# Altium integrated library TI Power Management Battery Management.IntLib: 949 symbols (part 9 of 62)
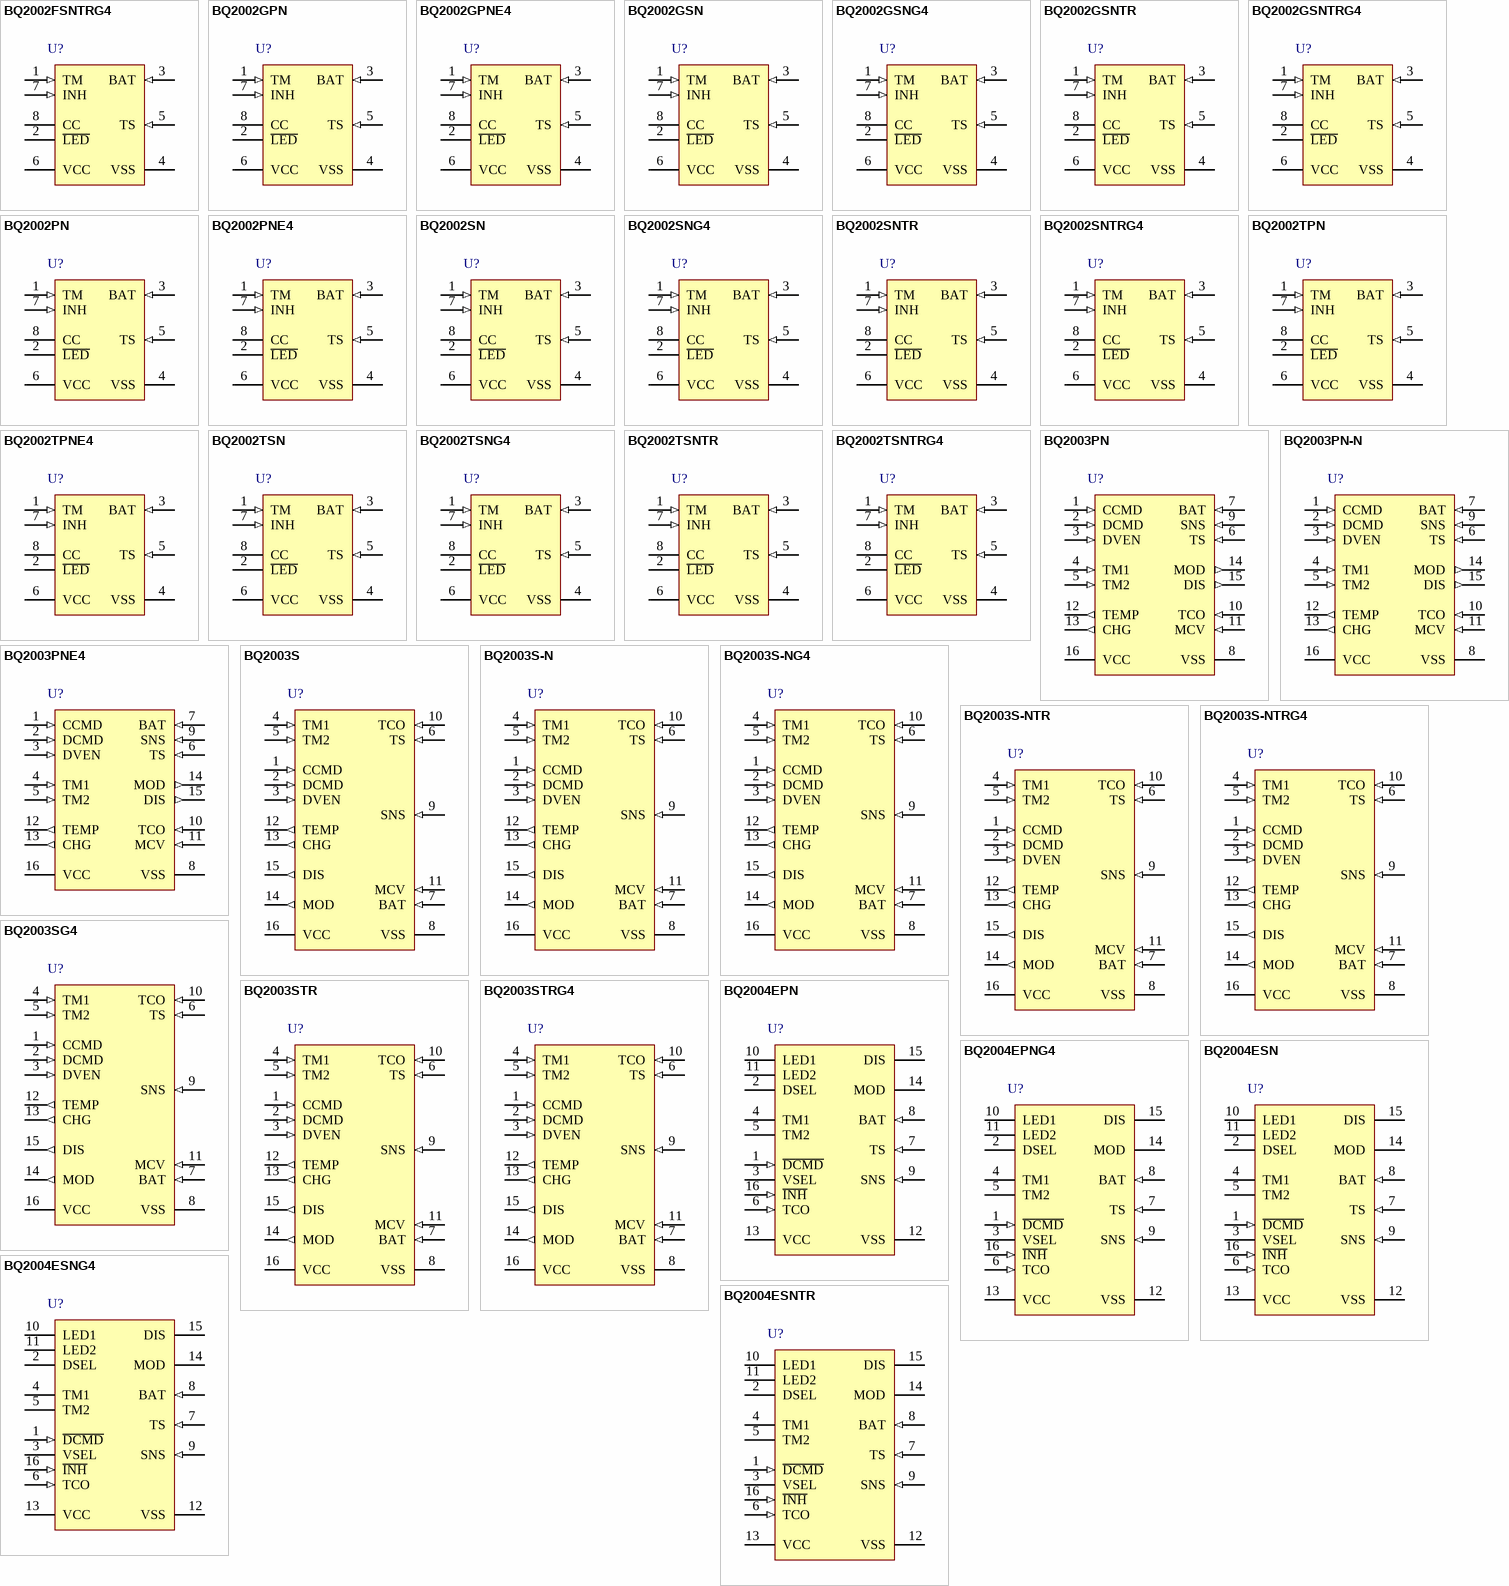
[diagram p42: symbols BQ2002FSNTRG4 to BQ2004ESNTR]

## BQ2003STR
designator U?
Switch-Mode NiCd / NiMH Battery Charger with Negative dV and dT / dt Termination, 4.5 V, 0 to 70 degC, 16-pin SOIC (DW), Green (RoHS & no Sb/Br); PartNumber: BQ2003STR; Manufacturer: Texas Instruments; Lead Acid: N; NiCd: Y; SubFamily: Battery Charge Management; Vin(Min)(V): 4.5; DatasheetVersion: SLUS095A; PackageVersion: revG, Jan-2011; PackageReference: DW16; PackageDescription: 16-Pin Small Outline Integrated Circuit, 10.3 x 7.5 mm, Pitch 1.27 mm Pitch; Supplier 1: Digi-Key; Supplier Part Number 1: BQ2003STR-ND; Supplier 2: Newark; Supplier Part Number 2: 74C7534; Supplier 3: Mouser; Supplier Part Number 3: 595-BQ2003STR; Eco-Plan: Green (RoHS & no Sb/Br); Li-Ion: N; Li-Polymer: N; NiMH: Y; Over Voltage Protection: N; Mounting Technology: Surface Mount; Code_JEDEC: MS-013-AA; ComponentLink1Description: Datasheet; ComponentLink1URL: http://www.ti.com/general/docs/lit/getliterature.tsp?genericPartNumber=BQ2003&fileType=pdf
footprint DW16_N (SOIC, 16-Leads, Body 10.3x7.5mm, Pitch 1.27mm, IPC Medium Density)
footprint DW16_L (SOIC, 16-Leads, Body 10.3x7.5mm, Pitch 1.27mm, IPC High Density)
footprint DW16_M (SOIC, 16-Leads, Body 10.3x7.5mm, Pitch 1.27mm, IPC Low Density)
pins: 1 CCMD (in) "These two inputs control the conditions that begin a new charge cycle and enable discharge-before-charge. See Table 1.", 2 DCMD (in) "These two inputs control the conditions that begin a new charge cycle and enable discharge-before-charge. See Table 1.", 3 DVEN (in) "This input enales/disables -deltaV charge termination.If DVEN is high, the -deltaV test is enabled.If DVEN is low, -deltaV test is disabled. The state of DVEN may be changed at any time.", 4 TM1 (in) "TM1 is three-state input that configure the fast charge safety timer, -deltaV holdoff time, and that enhance/disable top-off.See Table 2.", 5 TM2 (in) "TM2 is three-state input that configure the fast charge safety timer, -deltaV holdoff time, and that enhance/disable top-off.See Table 2.", 6 TS (in) "Input, referenced to SNS, for an external thermistor monitoring battery temperature.", 7 BAT (in) "The battery voltage sense input, referenced to SNS. This is created by a high-impedance resistor divider network connected between the positive and the negative terminals of the battery.", 8 VSS (power) "Ground", 9 SNS (in) "SNS controls the switching of MOD based on the voltage across an external sense resistor in the current path of the battery. SNS is the reference potential for the TS and BAT pins.If SNS is connected to VSS, MOD switches (See Datasheet)", 10 TCO (in) "Input to set maximum allowable battery temperature. If the potential between TS and SNS is less than the voltage at the TCO input, then fast charge or top-off charge is terminated.", 11 MCV (in) "Input to set maximum single-cell equivalent voltage. If the voltage between BAT and SNS is greater than or equal to the voltage at the MCV input, then fast charge or top-off charge is inhibited.", 12 TEMP (out) "Push-pull output indicating temperature status. TEMP is low if the voltage at the TS pis not within the allowed range to start fast charge.", 13 CHG (out) "Push-pull output indicating charging status.See Figure 1.", 14 MOD (out) "MOD is a push/pull output that is used to control the charging current to the battery.MOD switches high to enable charging current flow and low to inhibit charging current flow.", 15 DIS (out) "Push-pull output used to control an external transistor to discharge the battery before charging.", 16 VCC (power) "5.0 V, +/-10% power input."

## BQ2003STRG4
designator U?
Switch-Mode NiCd / NiMH Battery Charger with Negative dV and dT / dt Termination, 4.5 V, 0 to 70 degC, 16-pin SOIC (DW), Green (RoHS & no Sb/Br); PartNumber: BQ2003STRG4; Manufacturer: Texas Instruments; Lead Acid: N; NiCd: Y; SubFamily: Battery Charge Management; Vin(Min)(V): 4.5; DatasheetVersion: SLUS095A; PackageVersion: revG, Jan-2011; PackageReference: DW16; PackageDescription: 16-Pin Small Outline Integrated Circuit, 10.3 x 7.5 mm, Pitch 1.27 mm Pitch; Supplier 1: Digi-Key; Supplier Part Number 1: BQ2003STRG4-ND; Supplier 2: Newark; Supplier Part Number 2: 66K1456; Supplier 3: Mouser; Supplier Part Number 3: 595-BQ2003STRG4; Eco-Plan: Green (RoHS & no Sb/Br); Li-Ion: N; Li-Polymer: N; NiMH: Y; Over Voltage Protection: N; Mounting Technology: Surface Mount; Code_JEDEC: MS-013-AA; ComponentLink1Description: Datasheet; ComponentLink1URL: http://www.ti.com/general/docs/lit/getliterature.tsp?genericPartNumber=BQ2003&fileType=pdf
footprint DW16_N (SOIC, 16-Leads, Body 10.3x7.5mm, Pitch 1.27mm, IPC Medium Density)
footprint DW16_L (SOIC, 16-Leads, Body 10.3x7.5mm, Pitch 1.27mm, IPC High Density)
footprint DW16_M (SOIC, 16-Leads, Body 10.3x7.5mm, Pitch 1.27mm, IPC Low Density)
pins: 1 CCMD (in) "These two inputs control the conditions that begin a new charge cycle and enable discharge-before-charge. See Table 1.", 2 DCMD (in) "These two inputs control the conditions that begin a new charge cycle and enable discharge-before-charge. See Table 1.", 3 DVEN (in) "This input enales/disables -deltaV charge termination.If DVEN is high, the -deltaV test is enabled.If DVEN is low, -deltaV test is disabled. The state of DVEN may be changed at any time.", 4 TM1 (in) "TM1 is three-state input that configure the fast charge safety timer, -deltaV holdoff time, and that enhance/disable top-off.See Table 2.", 5 TM2 (in) "TM2 is three-state input that configure the fast charge safety timer, -deltaV holdoff time, and that enhance/disable top-off.See Table 2.", 6 TS (in) "Input, referenced to SNS, for an external thermistor monitoring battery temperature.", 7 BAT (in) "The battery voltage sense input, referenced to SNS. This is created by a high-impedance resistor divider network connected between the positive and the negative terminals of the battery.", 8 VSS (power) "Ground", 9 SNS (in) "SNS controls the switching of MOD based on the voltage across an external sense resistor in the current path of the battery. SNS is the reference potential for the TS and BAT pins.If SNS is connected to VSS, MOD switches (See Datasheet)", 10 TCO (in) "Input to set maximum allowable battery temperature. If the potential between TS and SNS is less than the voltage at the TCO input, then fast charge or top-off charge is terminated.", 11 MCV (in) "Input to set maximum single-cell equivalent voltage. If the voltage between BAT and SNS is greater than or equal to the voltage at the MCV input, then fast charge or top-off charge is inhibited.", 12 TEMP (out) "Push-pull output indicating temperature status. TEMP is low if the voltage at the TS pis not within the allowed range to start fast charge.", 13 CHG (out) "Push-pull output indicating charging status.See Figure 1.", 14 MOD (out) "MOD is a push/pull output that is used to control the charging current to the battery.MOD switches high to enable charging current flow and low to inhibit charging current flow.", 15 DIS (out) "Push-pull output used to control an external transistor to discharge the battery before charging.", 16 VCC (power) "5.0 V, +/-10% power input."

## BQ2004EPN
designator U?
Switch-Mode NiCd / NiMH Battery Charger with Negative dV, Peak Voltage Detection, dT / dt Termination, 4.5 V, -20 to 70 degC, 16-pin PDIP (N), Green (RoHS & no Sb/Br); PartNumber: BQ2004EPN; Manufacturer: Texas Instruments; NiCd: Y; SubFamily: Battery Charge Management; Vin(Min)(V): 4.5; DatasheetVersion: SLUS081A; PackageVersion: revE, Dec-2002; PackageReference: N16; PackageDescription: 16-Pin Plastic Dual-In-Line Package, Row Spacing 7.62 mm, Pitch 2.54 mm; Supplier 1: Digi-Key; Supplier Part Number 1: 296-9332-5-ND; Supplier 2: Newark; Supplier Part Number 2: 74C7535; Supplier 3: Mouser; Supplier Part Number 3: 595-BQ2004EPN; Eco-Plan: Green (RoHS & no Sb/Br); Lead Acid: N; Li-Ion: N; Li-Polymer: N; NiMH: Y; Over Voltage Protection: N; Mounting Technology: Through Hole; Code_JEDEC: MS-001*; ComponentLink1Description: Datasheet; ComponentLink1URL: http://www.ti.com/general/docs/lit/getliterature.tsp?genericPartNumber=BQ2004E&fileType=pdf
footprint N16 (DIP, 16-Leads, Row Spacing 7.62mm, Pitch 2.54mm, Body 19.3x6.4mm)
pins: 1 ~{DCMD} (in) "The D\C\M\D\ input controls the conditions that enable discharge-before-charge.D\C\M\D\ is pulled up internally. A negative-going pulse on D\C\M\D\ initiates a discharge to endof- discharge voltage (EDV) on the BAT (See Datasheet)", 2 DSEL "This three-state input configures the charge status display mode of the LED1 and LED2 outputs and can be used to disable top-off and pulsed-trickle. See Table 2.", 3 VSEL "This three-state input controls the voltagetermination technique used by the bq2004E/H. When high, PVD is active.When floating, -deltaV is used. When pulled low,both PVD and -deltaV are disabled.", 4 TM1 "TM1 and TM2 are three-state inputs that configure the fast charge safety timer, voltage termination hold-off time, "top-off" and trickle charge control. See Table 1.", 5 TM2 "TM1 and TM2 are three-state inputs that configure the fast charge safety timer, voltage termination hold-off time, "top-off" and trickle charge control. See Table 1.", 6 TCO (in) "Input to set maximum allowable battery temperature. If the potential between TS and SNS is less than the voltage at the TCO input, then fast charge or top-off charge is terminated.", 7 TS (in) "Input, referenced to SNS, for an external thermister monitoring battery temperature.", 8 BAT (in) "BAT is the battery voltage sense input, referenced to SNS. This is created by a highimpedance resistor-divider network connected between the positive and the negative terminals of the battery.", 9 SNS (in) "SNS controls the switching of MOD based on an external sense resistor in the current path of the battery. SNS is the reference potential for both the TS and BAT pins. If SNS is connected to VSS, then MOD switches high at the (See Datasheet)", 10 LED1 (hiz) "Push-pull outputs indicating charging status. See Table 2.", 11 LED2 (hiz) "Push-pull outputs indicating charging status. See Table 2.", 12 VSS (power) "Ground", 13 VCC (power) "5.0V, +/-10% power input.", 14 MOD (hiz) "MOD is a push-pull output that is used to control the charging current to the battery.MOD switches high to enable charging current to flow and low to inhibit charging current flow.", 15 DIS (hiz) "Push-pull output used to control an external transistor to discharge the battery before charging.", 16 ~{INH} (in) "When low, the bq2004E/H suspends all charge actions, drives all outputs to high impedance,and assumes a low-power operational state. When transitioning from low to high, a new charge cycle is started."

## BQ2004EPNG4
designator U?
Switch-Mode NiCd / NiMH Battery Charger with Negative dV, Peak Voltage Detection, dT / dt Termination, 4.5 V, -20 to 70 degC, 16-pin PDIP (N), Green (RoHS & no Sb/Br); PartNumber: BQ2004EPNG4; Manufacturer: Texas Instruments; NiCd: Y; SubFamily: Battery Charge Management; Vin(Min)(V): 4.5; DatasheetVersion: SLUS081A; PackageVersion: revE, Dec-2002; PackageReference: N16; PackageDescription: 16-Pin Plastic Dual-In-Line Package, Row Spacing 7.62 mm, Pitch 2.54 mm; Supplier 1: Digi-Key; Supplier Part Number 1: BQ2004EPNG4-ND; Supplier 2: Newark; Supplier Part Number 2: 28K2817; Supplier 3: Mouser; Supplier Part Number 3: 595-BQ2004EPNG4; Eco-Plan: Green (RoHS & no Sb/Br); Lead Acid: N; Li-Ion: N; Li-Polymer: N; NiMH: Y; Over Voltage Protection: N; Mounting Technology: Through Hole; Code_JEDEC: MS-001*; ComponentLink1Description: Datasheet; ComponentLink1URL: http://www.ti.com/general/docs/lit/getliterature.tsp?genericPartNumber=BQ2004E&fileType=pdf
footprint N16 (DIP, 16-Leads, Row Spacing 7.62mm, Pitch 2.54mm, Body 19.3x6.4mm)
pins: 1 ~{DCMD} (in) "The D\C\M\D\ input controls the conditions that enable discharge-before-charge.D\C\M\D\ is pulled up internally. A negative-going pulse on D\C\M\D\ initiates a discharge to endof- discharge voltage (EDV) on the BAT (See Datasheet)", 2 DSEL "This three-state input configures the charge status display mode of the LED1 and LED2 outputs and can be used to disable top-off and pulsed-trickle. See Table 2.", 3 VSEL "This three-state input controls the voltagetermination technique used by the bq2004E/H. When high, PVD is active.When floating, -deltaV is used. When pulled low,both PVD and -deltaV are disabled.", 4 TM1 "TM1 and TM2 are three-state inputs that configure the fast charge safety timer, voltage termination hold-off time, "top-off" and trickle charge control. See Table 1.", 5 TM2 "TM1 and TM2 are three-state inputs that configure the fast charge safety timer, voltage termination hold-off time, "top-off" and trickle charge control. See Table 1.", 6 TCO (in) "Input to set maximum allowable battery temperature. If the potential between TS and SNS is less than the voltage at the TCO input, then fast charge or top-off charge is terminated.", 7 TS (in) "Input, referenced to SNS, for an external thermister monitoring battery temperature.", 8 BAT (in) "BAT is the battery voltage sense input, referenced to SNS. This is created by a highimpedance resistor-divider network connected between the positive and the negative terminals of the battery.", 9 SNS (in) "SNS controls the switching of MOD based on an external sense resistor in the current path of the battery. SNS is the reference potential for both the TS and BAT pins. If SNS is connected to VSS, then MOD switches high at the (See Datasheet)", 10 LED1 (hiz) "Push-pull outputs indicating charging status. See Table 2.", 11 LED2 (hiz) "Push-pull outputs indicating charging status. See Table 2.", 12 VSS (power) "Ground", 13 VCC (power) "5.0V, +/-10% power input.", 14 MOD (hiz) "MOD is a push-pull output that is used to control the charging current to the battery.MOD switches high to enable charging current to flow and low to inhibit charging current flow.", 15 DIS (hiz) "Push-pull output used to control an external transistor to discharge the battery before charging.", 16 ~{INH} (in) "When low, the bq2004E/H suspends all charge actions, drives all outputs to high impedance,and assumes a low-power operational state. When transitioning from low to high, a new charge cycle is started."

## BQ2004ESN
designator U?
Switch-Mode NiCd / NiMH Battery Charger with Negative dV, Peak Voltage Detection, dT / dt Termination, 4.5 V, -20 to 70 degC, 16-pin SOIC (D), Green (RoHS & no Sb/Br); PartNumber: BQ2004ESN; Manufacturer: Texas Instruments; Lead Acid: N; NiCd: Y; SubFamily: Battery Charge Management; Vin(Min)(V): 4.5; DatasheetVersion: SLUS081A; PackageVersion: revM, Jun-2011; PackageReference: D16; PackageDescription: 16-Pin Plastic Small Outline Integrated Circuit, 9.9 x 3.9 mm, Pitch 1.27 mm Pitch; Supplier 1: Digi-Key; Supplier Part Number 1: 296-9333-5-ND; Supplier 2: Newark; Supplier Part Number 2: 74C7536; Supplier 3: Mouser; Supplier Part Number 3: 595-BQ2004ESN; Eco-Plan: Green (RoHS & no Sb/Br); Li-Ion: N; Li-Polymer: N; NiMH: Y; Over Voltage Protection: N; Mounting Technology: Surface Mount; Code_JEDEC: MS-012AC; ComponentLink1Description: Datasheet; ComponentLink1URL: http://www.ti.com/general/docs/lit/getliterature.tsp?genericPartNumber=BQ2004E&fileType=pdf
footprint D16_N (SOIC, 16-Leads, Body 9.9x3.9mm, Pitch 1.27mm, IPC Medium Density)
footprint D16_L (SOIC, 16-Leads, Body 9.9x3.9mm, Pitch 1.27mm, IPC High Density)
footprint D16_M (SOIC, 16-Leads, Body 9.9x3.9mm, Pitch 1.27mm, IPC Low Density)
pins: 1 ~{DCMD} (in) "The D\C\M\D\ input controls the conditions that enable discharge-before-charge.D\C\M\D\ is pulled up internally. A negative-going pulse on D\C\M\D\ initiates a discharge to endof- discharge voltage (EDV) on the BAT (See Datasheet)", 2 DSEL "This three-state input configures the charge status display mode of the LED1 and LED2 outputs and can be used to disable top-off and pulsed-trickle. See Table 2.", 3 VSEL "This three-state input controls the voltagetermination technique used by the bq2004. When high, PVD is active.When floating, -deltaV is used. When pulled low,both PVD and -deltaV are disabled.", 4 TM1 "TM1 is three-state input that configure the fast charge safety timer, voltage termination hold-off time, "top-off",and trickle charge control. See Table 1.", 5 TM2 "TM2 is three-state input that configure the fast charge safety timer, voltage termination hold-off time, "top-off",and trickle charge control. See Table 1.", 6 TCO (in) "Input to set maximum allowable battery temperature. If the potential between TS and SNS is less than the voltage at the TCO input, then fast charge or top-off charge is terminated.", 7 TS (in) "Input, referenced to SNS, for an external thermister monitoring battery temperature.", 8 BAT (in) "BAT is the battery voltage sense input, referenced to SNS. This is created by a highimpedance resistor-divider network connected between the positive and the negative terminals of the battery.", 9 SNS (in) "SNS controls the switching of MOD based on an external sense resistor in the current path of the battery. SNS is the reference potential for both the TS and BAT pins. If SNS is connected to VSS, then MOD switches high at the (See Datasheet)", 10 LED1 (hiz) "Push-pull outputs indicating charging status. See Table 2.", 11 LED2 (hiz) "Push-pull outputs indicating charging status. See Table 2.", 12 VSS (power) "Ground", 13 VCC (power) "5.0V, +/-10% power input.", 14 MOD (hiz) "MOD is a push-pull output that is used to control the charging current to the battery.MOD switches high to enable charging current to flow and low to inhibit charging current flow.", 15 DIS (hiz) "Push-pull output used to control an external transistor to discharge the battery before charging.", 16 ~{INH} (in) "When low, the bq2004 suspends all charge actions, drives all outputs to high impedance,and assumes a low-power operational state. When transitioning from low to high, a new charge cycle is started."

## BQ2004ESNG4
designator U?
Switch-Mode NiCd / NiMH Battery Charger with Negative dV, Peak Voltage Detection, dT / dt Termination, 4.5 V, -20 to 70 degC, 16-pin SOIC (D), Green (RoHS & no Sb/Br); PartNumber: BQ2004ESNG4; Manufacturer: Texas Instruments; Lead Acid: N; NiCd: Y; SubFamily: Battery Charge Management; Vin(Min)(V): 4.5; DatasheetVersion: SLUS081A; PackageVersion: revM, Jun-2011; PackageReference: D16; PackageDescription: 16-Pin Plastic Small Outline Integrated Circuit, 9.9 x 3.9 mm, Pitch 1.27 mm Pitch; Supplier 1: Digi-Key; Supplier Part Number 1: BQ2004ESNG4-ND; Supplier 2: Farnell; Supplier Part Number 2: 1206881; Supplier 3: Newark; Supplier Part Number 3: 96K7076; Supplier 4: Newark; Supplier Part Number 4: 80K1219; Supplier 5: Mouser; Supplier Part Number 5: 595-BQ2004ESNG4; Eco-Plan: Green (RoHS & no Sb/Br); Li-Ion: N; Li-Polymer: N; NiMH: Y; Over Voltage Protection: N; Mounting Technology: Surface Mount; Code_JEDEC: MS-012AC; ComponentLink1Description: Datasheet; ComponentLink1URL: http://www.ti.com/general/docs/lit/getliterature.tsp?genericPartNumber=BQ2004E&fileType=pdf
footprint D16_N (SOIC, 16-Leads, Body 9.9x3.9mm, Pitch 1.27mm, IPC Medium Density)
footprint D16_L (SOIC, 16-Leads, Body 9.9x3.9mm, Pitch 1.27mm, IPC High Density)
footprint D16_M (SOIC, 16-Leads, Body 9.9x3.9mm, Pitch 1.27mm, IPC Low Density)
pins: 1 ~{DCMD} (in) "The D\C\M\D\ input controls the conditions that enable discharge-before-charge.D\C\M\D\ is pulled up internally. A negative-going pulse on D\C\M\D\ initiates a discharge to endof- discharge voltage (EDV) on the BAT (See Datasheet)", 2 DSEL "This three-state input configures the charge status display mode of the LED1 and LED2 outputs and can be used to disable top-off and pulsed-trickle. See Table 2.", 3 VSEL "This three-state input controls the voltagetermination technique used by the bq2004. When high, PVD is active.When floating, -deltaV is used. When pulled low,both PVD and -deltaV are disabled.", 4 TM1 "TM1 is three-state input that configure the fast charge safety timer, voltage termination hold-off time, "top-off",and trickle charge control. See Table 1.", 5 TM2 "TM2 is three-state input that configure the fast charge safety timer, voltage termination hold-off time, "top-off",and trickle charge control. See Table 1.", 6 TCO (in) "Input to set maximum allowable battery temperature. If the potential between TS and SNS is less than the voltage at the TCO input, then fast charge or top-off charge is terminated.", 7 TS (in) "Input, referenced to SNS, for an external thermister monitoring battery temperature.", 8 BAT (in) "BAT is the battery voltage sense input, referenced to SNS. This is created by a highimpedance resistor-divider network connected between the positive and the negative terminals of the battery.", 9 SNS (in) "SNS controls the switching of MOD based on an external sense resistor in the current path of the battery. SNS is the reference potential for both the TS and BAT pins. If SNS is connected to VSS, then MOD switches high at the (See Datasheet)", 10 LED1 (hiz) "Push-pull outputs indicating charging status. See Table 2.", 11 LED2 (hiz) "Push-pull outputs indicating charging status. See Table 2.", 12 VSS (power) "Ground", 13 VCC (power) "5.0V, +/-10% power input.", 14 MOD (hiz) "MOD is a push-pull output that is used to control the charging current to the battery.MOD switches high to enable charging current to flow and low to inhibit charging current flow.", 15 DIS (hiz) "Push-pull output used to control an external transistor to discharge the battery before charging.", 16 ~{INH} (in) "When low, the bq2004 suspends all charge actions, drives all outputs to high impedance,and assumes a low-power operational state. When transitioning from low to high, a new charge cycle is started."

## BQ2004ESNTR
designator U?
Switch-Mode NiCd / NiMH Battery Charger with Negative dV, Peak Voltage Detection, dT / dt Termination, 4.5 V, -20 to 70 degC, 16-pin SOIC (D), Green (RoHS & no Sb/Br); PartNumber: BQ2004ESNTR; Manufacturer: Texas Instruments; Lead Acid: N; NiCd: Y; SubFamily: Battery Charge Management; Vin(Min)(V): 4.5; DatasheetVersion: SLUS081A; PackageVersion: revM, Jun-2011; PackageReference: D16; PackageDescription: 16-Pin Plastic Small Outline Integrated Circuit, 9.9 x 3.9 mm, Pitch 1.27 mm Pitch; Supplier 1: Digi-Key; Supplier Part Number 1: 296-29407-2-ND; Supplier 2: Digi-Key; Supplier Part Number 2: 296-29407-1-ND; Supplier 3: Digi-Key; Supplier Part Number 3: 296-29407-6-ND; Supplier 4: Newark; Supplier Part Number 4: 74C7537; Supplier 5: Mouser; Supplier Part Number 5: 595-BQ2004ESNTR; Eco-Plan: Green (RoHS & no Sb/Br); Li-Ion: N; Li-Polymer: N; NiMH: Y; Over Voltage Protection: N; Mounting Technology: Surface Mount; Code_JEDEC: MS-012AC; ComponentLink1Description: Datasheet; ComponentLink1URL: http://www.ti.com/general/docs/lit/getliterature.tsp?genericPartNumber=BQ2004E&fileType=pdf
footprint D16_N (SOIC, 16-Leads, Body 9.9x3.9mm, Pitch 1.27mm, IPC Medium Density)
footprint D16_L (SOIC, 16-Leads, Body 9.9x3.9mm, Pitch 1.27mm, IPC High Density)
footprint D16_M (SOIC, 16-Leads, Body 9.9x3.9mm, Pitch 1.27mm, IPC Low Density)
pins: 1 ~{DCMD} (in) "The D\C\M\D\ input controls the conditions that enable discharge-before-charge.D\C\M\D\ is pulled up internally. A negative-going pulse on D\C\M\D\ initiates a discharge to endof- discharge voltage (EDV) on the BAT (See Datasheet)", 2 DSEL "This three-state input configures the charge status display mode of the LED1 and LED2 outputs and can be used to disable top-off and pulsed-trickle. See Table 2.", 3 VSEL "This three-state input controls the voltagetermination technique used by the bq2004. When high, PVD is active.When floating, -deltaV is used. When pulled low,both PVD and -deltaV are disabled.", 4 TM1 "TM1 is three-state input that configure the fast charge safety timer, voltage termination hold-off time, "top-off",and trickle charge control. See Table 1.", 5 TM2 "TM2 is three-state input that configure the fast charge safety timer, voltage termination hold-off time, "top-off",and trickle charge control. See Table 1.", 6 TCO (in) "Input to set maximum allowable battery temperature. If the potential between TS and SNS is less than the voltage at the TCO input, then fast charge or top-off charge is terminated.", 7 TS (in) "Input, referenced to SNS, for an external thermister monitoring battery temperature.", 8 BAT (in) "BAT is the battery voltage sense input, referenced to SNS. This is created by a highimpedance resistor-divider network connected between the positive and the negative terminals of the battery.", 9 SNS (in) "SNS controls the switching of MOD based on an external sense resistor in the current path of the battery. SNS is the reference potential for both the TS and BAT pins. If SNS is connected to VSS, then MOD switches high at the (See Datasheet)", 10 LED1 (hiz) "Push-pull outputs indicating charging status. See Table 2.", 11 LED2 (hiz) "Push-pull outputs indicating charging status. See Table 2.", 12 VSS (power) "Ground", 13 VCC (power) "5.0V, +/-10% power input.", 14 MOD (hiz) "MOD is a push-pull output that is used to control the charging current to the battery.MOD switches high to enable charging current to flow and low to inhibit charging current flow.", 15 DIS (hiz) "Push-pull output used to control an external transistor to discharge the battery before charging.", 16 ~{INH} (in) "When low, the bq2004 suspends all charge actions, drives all outputs to high impedance,and assumes a low-power operational state. When transitioning from low to high, a new charge cycle is started."

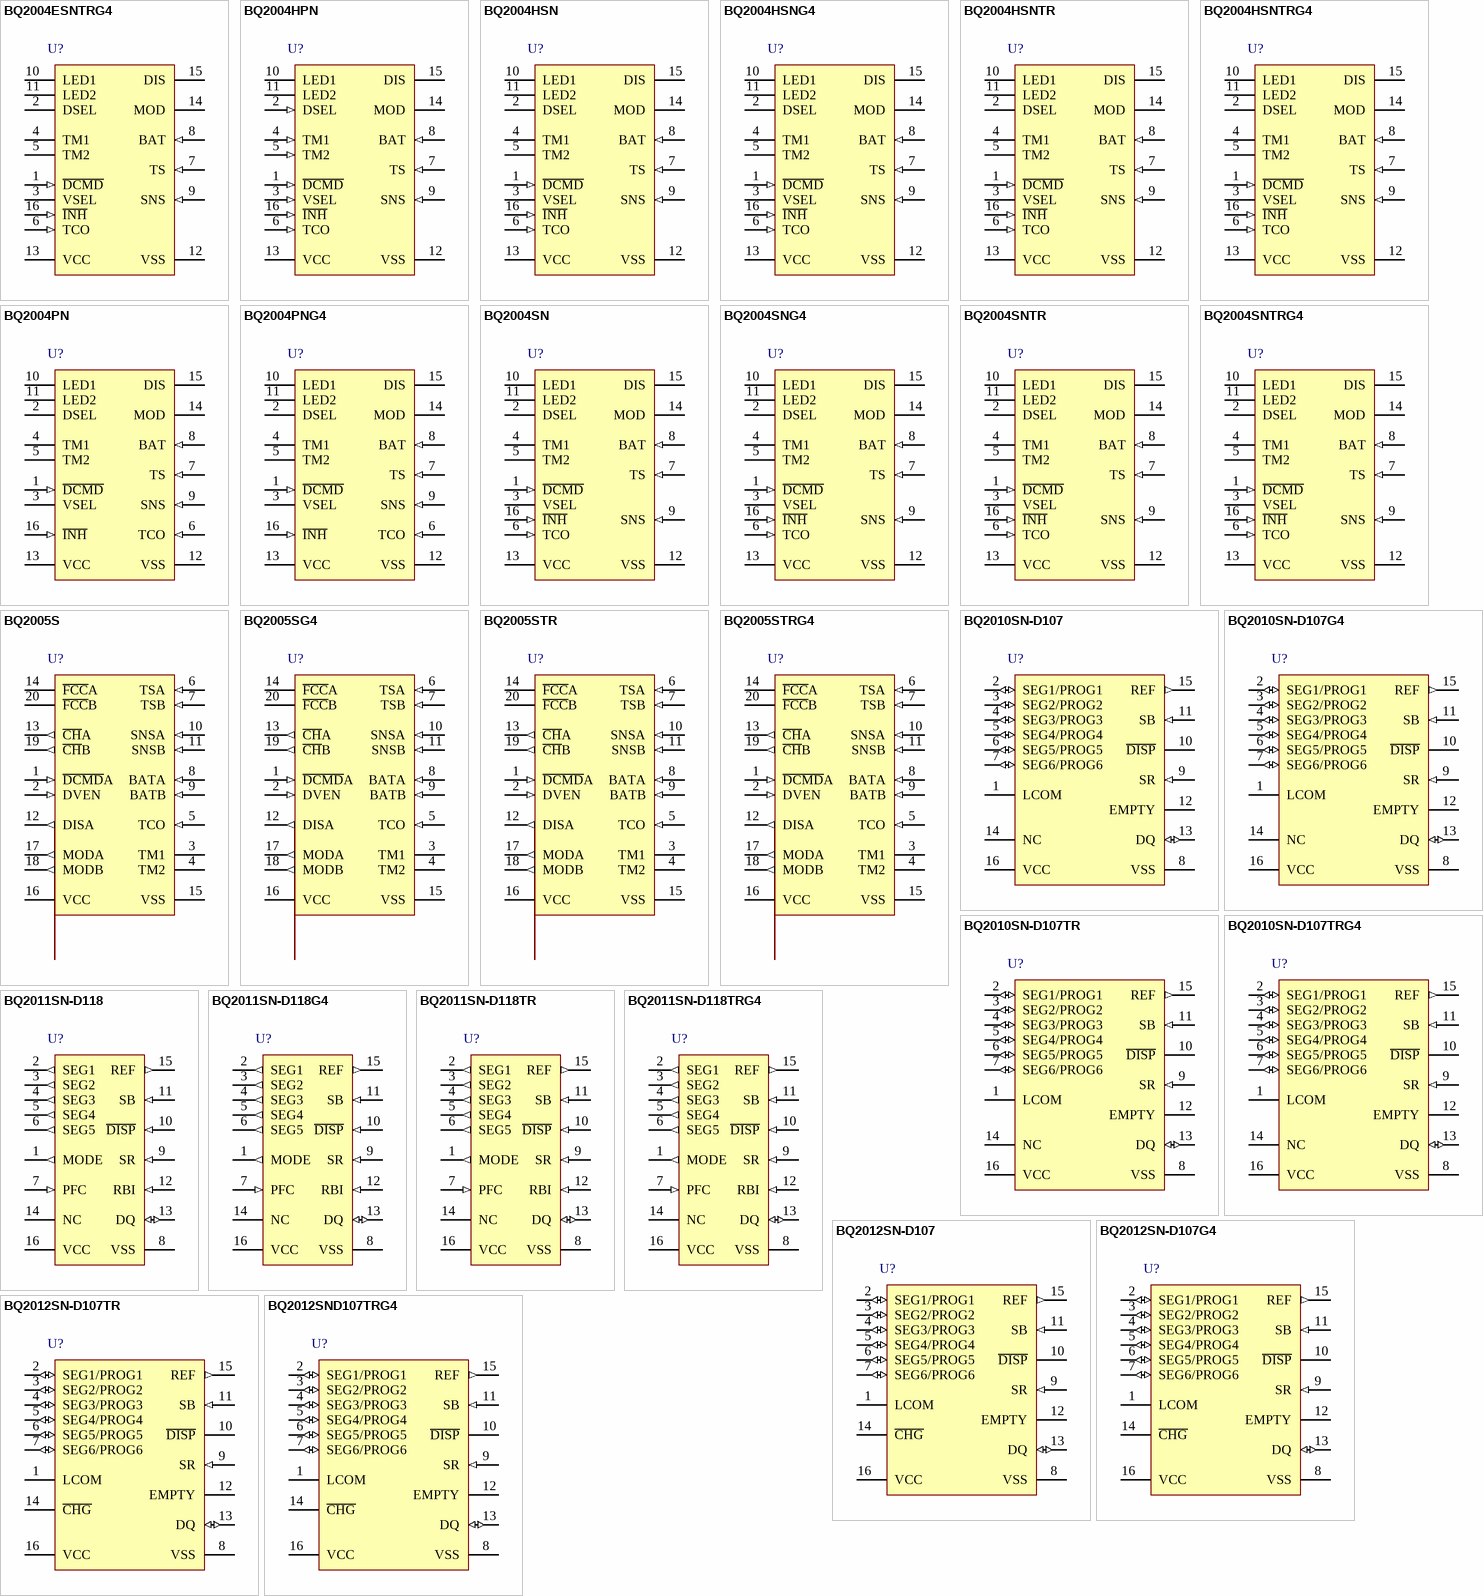
[diagram p5: symbols BQ2004ESNTRG4 to BQ2012SND107TRG4]

## BQ2004ESNTRG4
designator U?
Switch-Mode NiCd / NiMH Battery Charger with Negative dV, Peak Voltage Detection, dT / dt Termination, 4.5 V, -20 to 70 degC, 16-pin SOIC (D), Green (RoHS & no Sb/Br); PartNumber: BQ2004ESNTRG4; Manufacturer: Texas Instruments; Lead Acid: N; NiCd: Y; SubFamily: Battery Charge Management; Vin(Min)(V): 4.5; DatasheetVersion: SLUS081A; PackageVersion: revM, Jun-2011; PackageReference: D16; PackageDescription: 16-Pin Plastic Small Outline Integrated Circuit, 9.9 x 3.9 mm, Pitch 1.27 mm Pitch; Supplier 1: Digi-Key; Supplier Part Number 1: BQ2004ESNTRG4-ND; Supplier 2: Newark; Supplier Part Number 2: 58K5570; Supplier 3: Mouser; Supplier Part Number 3: 595-BQ2004ESNTRG4; Eco-Plan: Green (RoHS & no Sb/Br); Li-Ion: N; Li-Polymer: N; NiMH: Y; Over Voltage Protection: N; Mounting Technology: Surface Mount; Code_JEDEC: MS-012AC; ComponentLink1Description: Datasheet; ComponentLink1URL: http://www.ti.com/general/docs/lit/getliterature.tsp?genericPartNumber=BQ2004E&fileType=pdf
footprint D16_N (SOIC, 16-Leads, Body 9.9x3.9mm, Pitch 1.27mm, IPC Medium Density)
footprint D16_L (SOIC, 16-Leads, Body 9.9x3.9mm, Pitch 1.27mm, IPC High Density)
footprint D16_M (SOIC, 16-Leads, Body 9.9x3.9mm, Pitch 1.27mm, IPC Low Density)
pins: 1 ~{DCMD} (in) "The D\C\M\D\ input controls the conditions that enable discharge-before-charge.D\C\M\D\ is pulled up internally. A negative-going pulse on D\C\M\D\ initiates a discharge to endof- discharge voltage (EDV) on the BAT (See Datasheet)", 2 DSEL "This three-state input configures the charge status display mode of the LED1 and LED2 outputs and can be used to disable top-off and pulsed-trickle. See Table 2.", 3 VSEL "This three-state input controls the voltagetermination technique used by the bq2004. When high, PVD is active.When floating, -deltaV is used. When pulled low,both PVD and -deltaV are disabled.", 4 TM1 "TM1 is three-state input that configure the fast charge safety timer, voltage termination hold-off time, "top-off",and trickle charge control. See Table 1.", 5 TM2 "TM2 is three-state input that configure the fast charge safety timer, voltage termination hold-off time, "top-off",and trickle charge control. See Table 1.", 6 TCO (in) "Input to set maximum allowable battery temperature. If the potential between TS and SNS is less than the voltage at the TCO input, then fast charge or top-off charge is terminated.", 7 TS (in) "Input, referenced to SNS, for an external thermister monitoring battery temperature.", 8 BAT (in) "BAT is the battery voltage sense input, referenced to SNS. This is created by a highimpedance resistor-divider network connected between the positive and the negative terminals of the battery.", 9 SNS (in) "SNS controls the switching of MOD based on an external sense resistor in the current path of the battery. SNS is the reference potential for both the TS and BAT pins. If SNS is connected to VSS, then MOD switches high at the (See Datasheet)", 10 LED1 (hiz) "Push-pull outputs indicating charging status. See Table 2.", 11 LED2 (hiz) "Push-pull outputs indicating charging status. See Table 2.", 12 VSS (power) "Ground", 13 VCC (power) "5.0V, +/-10% power input.", 14 MOD (hiz) "MOD is a push-pull output that is used to control the charging current to the battery.MOD switches high to enable charging current to flow and low to inhibit charging current flow.", 15 DIS (hiz) "Push-pull output used to control an external transistor to discharge the battery before charging.", 16 ~{INH} (in) "When low, the bq2004 suspends all charge actions, drives all outputs to high impedance,and assumes a low-power operational state. When transitioning from low to high, a new charge cycle is started."

## BQ2004HPN
designator U?
Switch-Mode NiCd / NiMH Battery Charger with Negative dV, Peak Voltage Detection, dT / dt Termination, 4.5 V, -20 to 70 degC, 16-pin PDIP (N), Green (RoHS & no Sb/Br); PartNumber: BQ2004HPN; Manufacturer: Texas Instruments; NiCd: Y; SubFamily: Battery Charge Management; Vin(Min)(V): 4.5; DatasheetVersion: SLUS081A; PackageVersion: revE, Dec-2002; PackageReference: N16; PackageDescription: 16-Pin Plastic Dual-In-Line Package, Row Spacing 7.62 mm, Pitch 2.54 mm; Supplier 1: Digi-Key; Supplier Part Number 1: 296-9334-5-ND; Supplier 2: Newark; Supplier Part Number 2: 71P9129; Supplier 3: Mouser; Supplier Part Number 3: 595-BQ2004HPN; Eco-Plan: Green (RoHS & no Sb/Br); Lead Acid: N; Li-Ion: N; Li-Polymer: N; NiMH: Y; Over Voltage Protection: N; Mounting Technology: Through Hole; Code_JEDEC: MS-001*; ComponentLink1Description: Datasheet; ComponentLink1URL: http://www.ti.com/general/docs/lit/getliterature.tsp?genericPartNumber=BQ2004H&fileType=pdf
footprint N16 (DIP, 16-Leads, Row Spacing 7.62mm, Pitch 2.54mm, Body 19.3x6.4mm)
pins: 1 ~{DCMD} (in) "The D\C\M\D\ input controls the conditions that enable discharge-before-charge. DCMD is pulled up internally. A negative-going pulse on D\C\M\D\ initiates a discharge to endof- discharge voltage (EDV) on the BAT pin,followed (See Datasheet)", 2 DSEL (in) "This three-state input configures the charge status display mode of the LED1 and LED2 outputs and can be used to disable top-off and pulsed-trickle. See Table 2.", 3 VSEL (in) "This three-state input controls the voltagetermination technique used by the bq2004E/H. When high, PVD is active.When floating, -deltaV is used. When pulled low,both PVD and -deltaV are disabled.", 4 TM1 (in) "TM1 and TM2 are three-state inputs that configure the fast charge safety timer, voltage termination hold-off time, "top-off " and trickle charge control. See Table 1.", 5 TM2 (in) "TM1 and TM2 are three-state inputs that configure the fast charge safety timer, voltage termination hold-off time, "top-off " and trickle charge control. See Table 1.", 6 TCO (in) "Input to set maximum allowable battery temperature. If the potential between TS and SNS is less than the voltage at the TCO input, then fast charge or top-off charge is terminated.", 7 TS (in) "Input, referenced to SNS, for an external thermister monitoring battery temperature.", 8 BAT (in) "BAT is the battery voltage sense input, referenced to SNS. This is created by a highimpedance resistor-divider network connected between the positive and the negative terminals of the battery.", 9 SNS (in) "SNS controls the switching of MOD based on an external sense resistor in the current path of the battery. SNS is the reference potential for both the TS and BAT pins. If SNS is connected to VSS, then MOD switches high at the (See Datasheet)", 10 LED1 (hiz) "Push-pull outputs indicating charging status. See Table 2.", 11 LED2 (hiz) "Push-pull outputs indicating charging status. See Table 2.", 12 VSS (power) "Ground", 13 VCC (power) "5.0V, +/-10% power input.", 14 MOD (hiz) "MOD is a push-pull output that is used to control the charging current to the battery.MOD switches high to enable charging current to flow and low to inhibit charging current flow.", 15 DIS (hiz) "Push-pull output used to control an external transistor to discharge the battery before charging.", 16 ~{INH} (in) "When low, the bq2004E/H suspends all charge actions, drives all outputs to high impedance,and assumes a low-power operational state. When transitioning from low to high, a new charge cycle is started."

## BQ2004HSN
designator U?
Switch-Mode NiCd / NiMH Battery Charger with Negative dV, Peak Voltage Detection, dT / dt Termination, 4.5 V, -20 to 70 degC, 16-pin SOIC (D), Green (RoHS & no Sb/Br); PartNumber: BQ2004HSN; Manufacturer: Texas Instruments; Lead Acid: N; NiCd: Y; SubFamily: Battery Charge Management; Vin(Min)(V): 4.5; DatasheetVersion: SLUS081A; PackageVersion: revM, Jun-2011; PackageReference: D16; PackageDescription: 16-Pin Plastic Small Outline Integrated Circuit, 9.9 x 3.9 mm, Pitch 1.27 mm Pitch; Supplier 1: Digi-Key; Supplier Part Number 1: 296-9335-5-ND; Supplier 2: Newark; Supplier Part Number 2: 74K3704; Supplier 3: Mouser; Supplier Part Number 3: 595-BQ2004HSN; Eco-Plan: Green (RoHS & no Sb/Br); Li-Ion: N; Li-Polymer: N; NiMH: Y; Over Voltage Protection: N; Mounting Technology: Surface Mount; Code_JEDEC: MS-012AC; ComponentLink1Description: Datasheet; ComponentLink1URL: http://www.ti.com/general/docs/lit/getliterature.tsp?genericPartNumber=BQ2004H&fileType=pdf
footprint D16_N (SOIC, 16-Leads, Body 9.9x3.9mm, Pitch 1.27mm, IPC Medium Density)
footprint D16_L (SOIC, 16-Leads, Body 9.9x3.9mm, Pitch 1.27mm, IPC High Density)
footprint D16_M (SOIC, 16-Leads, Body 9.9x3.9mm, Pitch 1.27mm, IPC Low Density)
pins: 1 ~{DCMD} (in) "The D\C\M\D\ input controls the conditions that enable discharge-before-charge.D\C\M\D\ is pulled up internally. A negative-going pulse on D\C\M\D\ initiates a discharge to endof- discharge voltage (EDV) on the BAT (See Datasheet)", 2 DSEL "This three-state input configures the charge status display mode of the LED1 and LED2 outputs and can be used to disable top-off and pulsed-trickle. See Table 2.", 3 VSEL "This three-state input controls the voltagetermination technique used by the bq2004E/H. When high, PVD is active.When floating, -deltaV is used. When pulled low,both PVD and -deltaV are disabled.", 4 TM1 "TM1 is three-state input that configure the fast charge safety timer, voltage termination hold-off time, "top-off" and trickle charge control. See Table 1.", 5 TM2 "TM2 is three-state input that configure the fast charge safety timer, voltage termination hold-off time, "top-off" and trickle charge control. See Table 1.", 6 TCO (in) "Input to set maximum allowable battery temperature. If the potential between TS and SNS is less than the voltage at the TCO input, then fast charge or top-off charge is terminated.", 7 TS (in) "Input, referenced to SNS, for an external thermister monitoring battery temperature.", 8 BAT (in) "BAT is the battery voltage sense input, referenced to SNS. This is created by a highimpedance resistor-divider network connected between the positive and the negative terminals of the battery.", 9 SNS (in) "SNS controls the switching of MOD based on an external sense resistor in the current path of the battery. SNS is the reference potential for both the TS and BAT pins. If SNS is connected to VSS, then MOD switches high at the (See Datasheet)", 10 LED1 (hiz) "Push-pull outputs indicating charging status. See Table 2.", 11 LED2 (hiz) "Push-pull outputs indicating charging status. See Table 2.", 12 VSS (power) "Ground", 13 VCC (power) "5.0V, +/-10% power input.", 14 MOD (hiz) "MOD is a push-pull output that is used to control the charging current to the battery.MOD switches high to enable charging current to flow and low to inhibit charging current flow.", 15 DIS (hiz) "Push-pull output used to control an external transistor to discharge the battery before charging.", 16 ~{INH} (in) "When low, the bq2004  suspends all charge actions, drives all outputs to high impedance,and assumes a low-power operational state. When transitioning from low to high, a new charge cycle is started."

## BQ2004HSNG4
designator U?
Switch-Mode NiCd / NiMH Battery Charger with Negative dV, Peak Voltage Detection, dT / dt Termination, 4.5 V, -20 to 70 degC, 16-pin SOIC (D), Green (RoHS & no Sb/Br); PartNumber: BQ2004HSNG4; Manufacturer: Texas Instruments; Lead Acid: N; NiCd: Y; SubFamily: Battery Charge Management; Vin(Min)(V): 4.5; DatasheetVersion: SLUS081A; PackageVersion: revM, Jun-2011; PackageReference: D16; PackageDescription: 16-Pin Plastic Small Outline Integrated Circuit, 9.9 x 3.9 mm, Pitch 1.27 mm Pitch; Supplier 1: Digi-Key; Supplier Part Number 1: BQ2004HSNG4-ND; Supplier 2: Newark; Supplier Part Number 2: 26M8961; Supplier 3: Mouser; Supplier Part Number 3: 595-BQ2004HSNG4; Eco-Plan: Green (RoHS & no Sb/Br); Li-Ion: N; Li-Polymer: N; NiMH: Y; Over Voltage Protection: N; Mounting Technology: Surface Mount; Code_JEDEC: MS-012AC; ComponentLink1Description: Datasheet; ComponentLink1URL: http://www.ti.com/general/docs/lit/getliterature.tsp?genericPartNumber=BQ2004H&fileType=pdf
footprint D16_N (SOIC, 16-Leads, Body 9.9x3.9mm, Pitch 1.27mm, IPC Medium Density)
footprint D16_L (SOIC, 16-Leads, Body 9.9x3.9mm, Pitch 1.27mm, IPC High Density)
footprint D16_M (SOIC, 16-Leads, Body 9.9x3.9mm, Pitch 1.27mm, IPC Low Density)
pins: 1 ~{DCMD} (in) "The D\C\M\D\ input controls the conditions that enable discharge-before-charge.D\C\M\D\ is pulled up internally. A negative-going pulse on D\C\M\D\ initiates a discharge to endof- discharge voltage (EDV) on the BAT (See Datasheet)", 2 DSEL "This three-state input configures the charge status display mode of the LED1 and LED2 outputs and can be used to disable top-off and pulsed-trickle. See Table 2.", 3 VSEL "This three-state input controls the voltagetermination technique used by the bq2004E/H. When high, PVD is active.When floating, -deltaV is used. When pulled low,both PVD and -deltaV are disabled.", 4 TM1 "TM1 is three-state input that configure the fast charge safety timer, voltage termination hold-off time, "top-off" and trickle charge control. See Table 1.", 5 TM2 "TM2 is three-state input that configure the fast charge safety timer, voltage termination hold-off time, "top-off" and trickle charge control. See Table 1.", 6 TCO (in) "Input to set maximum allowable battery temperature. If the potential between TS and SNS is less than the voltage at the TCO input, then fast charge or top-off charge is terminated.", 7 TS (in) "Input, referenced to SNS, for an external thermister monitoring battery temperature.", 8 BAT (in) "BAT is the battery voltage sense input, referenced to SNS. This is created by a highimpedance resistor-divider network connected between the positive and the negative terminals of the battery.", 9 SNS (in) "SNS controls the switching of MOD based on an external sense resistor in the current path of the battery. SNS is the reference potential for both the TS and BAT pins. If SNS is connected to VSS, then MOD switches high at the (See Datasheet)", 10 LED1 (hiz) "Push-pull outputs indicating charging status. See Table 2.", 11 LED2 (hiz) "Push-pull outputs indicating charging status. See Table 2.", 12 VSS (power) "Ground", 13 VCC (power) "5.0V, +/-10% power input.", 14 MOD (hiz) "MOD is a push-pull output that is used to control the charging current to the battery.MOD switches high to enable charging current to flow and low to inhibit charging current flow.", 15 DIS (hiz) "Push-pull output used to control an external transistor to discharge the battery before charging.", 16 ~{INH} (in) "When low, the bq2004  suspends all charge actions, drives all outputs to high impedance,and assumes a low-power operational state. When transitioning from low to high, a new charge cycle is started."

## BQ2004HSNTR
designator U?
Switch-Mode NiCd / NiMH Battery Charger with Negative dV, Peak Voltage Detection, dT / dt Termination, 4.5 V, -20 to 70 degC, 16-pin SOIC (D), Green (RoHS & no Sb/Br); PartNumber: BQ2004HSNTR; Manufacturer: Texas Instruments; Lead Acid: N; NiCd: Y; SubFamily: Battery Charge Management; Vin(Min)(V): 4.5; DatasheetVersion: SLUS081A; PackageVersion: revM, Jun-2011; PackageReference: D16; PackageDescription: 16-Pin Plastic Small Outline Integrated Circuit, 9.9 x 3.9 mm, Pitch 1.27 mm Pitch; Supplier 1: Digi-Key; Supplier Part Number 1: BQ2004HSNTR-ND; Supplier 2: Newark; Supplier Part Number 2: 74C7540; Supplier 3: Mouser; Supplier Part Number 3: 595-BQ2004HSNTR; Eco-Plan: Green (RoHS & no Sb/Br); Li-Ion: N; Li-Polymer: N; NiMH: Y; Over Voltage Protection: N; Mounting Technology: Surface Mount; Code_JEDEC: MS-012AC; ComponentLink1Description: Datasheet; ComponentLink1URL: http://www.ti.com/general/docs/lit/getliterature.tsp?genericPartNumber=BQ2004H&fileType=pdf
footprint D16_N (SOIC, 16-Leads, Body 9.9x3.9mm, Pitch 1.27mm, IPC Medium Density)
footprint D16_L (SOIC, 16-Leads, Body 9.9x3.9mm, Pitch 1.27mm, IPC High Density)
footprint D16_M (SOIC, 16-Leads, Body 9.9x3.9mm, Pitch 1.27mm, IPC Low Density)
pins: 1 ~{DCMD} (in) "The D\C\M\D\ input controls the conditions that enable discharge-before-charge.D\C\M\D\ is pulled up internally. A negative-going pulse on D\C\M\D\ initiates a discharge to endof- discharge voltage (EDV) on the BAT (See Datasheet)", 2 DSEL "This three-state input configures the charge status display mode of the LED1 and LED2 outputs and can be used to disable top-off and pulsed-trickle. See Table 2.", 3 VSEL "This three-state input controls the voltagetermination technique used by the bq2004E/H. When high, PVD is active.When floating, -deltaV is used. When pulled low,both PVD and -deltaV are disabled.", 4 TM1 "TM1 is three-state input that configure the fast charge safety timer, voltage termination hold-off time, "top-off" and trickle charge control. See Table 1.", 5 TM2 "TM2 is three-state input that configure the fast charge safety timer, voltage termination hold-off time, "top-off" and trickle charge control. See Table 1.", 6 TCO (in) "Input to set maximum allowable battery temperature. If the potential between TS and SNS is less than the voltage at the TCO input, then fast charge or top-off charge is terminated.", 7 TS (in) "Input, referenced to SNS, for an external thermister monitoring battery temperature.", 8 BAT (in) "BAT is the battery voltage sense input, referenced to SNS. This is created by a highimpedance resistor-divider network connected between the positive and the negative terminals of the battery.", 9 SNS (in) "SNS controls the switching of MOD based on an external sense resistor in the current path of the battery. SNS is the reference potential for both the TS and BAT pins. If SNS is connected to VSS, then MOD switches high at the (See Datasheet)", 10 LED1 (hiz) "Push-pull outputs indicating charging status. See Table 2.", 11 LED2 (hiz) "Push-pull outputs indicating charging status. See Table 2.", 12 VSS (power) "Ground", 13 VCC (power) "5.0V, +/-10% power input.", 14 MOD (hiz) "MOD is a push-pull output that is used to control the charging current to the battery.MOD switches high to enable charging current to flow and low to inhibit charging current flow.", 15 DIS (hiz) "Push-pull output used to control an external transistor to discharge the battery before charging.", 16 ~{INH} (in) "When low, the bq2004  suspends all charge actions, drives all outputs to high impedance,and assumes a low-power operational state. When transitioning from low to high, a new charge cycle is started."

## BQ2004HSNTRG4
designator U?
Switch-Mode NiCd / NiMH Battery Charger with Negative dV, Peak Voltage Detection, dT / dt Termination, 4.5 V, -20 to 70 degC, 16-pin SOIC (D), Green (RoHS & no Sb/Br); PartNumber: BQ2004HSNTRG4; Manufacturer: Texas Instruments; Lead Acid: N; NiCd: Y; SubFamily: Battery Charge Management; Vin(Min)(V): 4.5; DatasheetVersion: SLUS081A; PackageVersion: revM, Jun-2011; PackageReference: D16; PackageDescription: 16-Pin Plastic Small Outline Integrated Circuit, 9.9 x 3.9 mm, Pitch 1.27 mm Pitch; Supplier 1: Digi-Key; Supplier Part Number 1: BQ2004HSNTRG4-ND; Supplier 2: Newark; Supplier Part Number 2: 24K4374; Supplier 3: Mouser; Supplier Part Number 3: 595-BQ2004HSNTRG4; Eco-Plan: Green (RoHS & no Sb/Br); Li-Ion: N; Li-Polymer: N; NiMH: Y; Over Voltage Protection: N; Mounting Technology: Surface Mount; Code_JEDEC: MS-012AC; ComponentLink1Description: Datasheet; ComponentLink1URL: http://www.ti.com/general/docs/lit/getliterature.tsp?genericPartNumber=BQ2004H&fileType=pdf
footprint D16_N (SOIC, 16-Leads, Body 9.9x3.9mm, Pitch 1.27mm, IPC Medium Density)
footprint D16_L (SOIC, 16-Leads, Body 9.9x3.9mm, Pitch 1.27mm, IPC High Density)
footprint D16_M (SOIC, 16-Leads, Body 9.9x3.9mm, Pitch 1.27mm, IPC Low Density)
pins: 1 ~{DCMD} (in) "The D\C\M\D\ input controls the conditions that enable discharge-before-charge.D\C\M\D\ is pulled up internally. A negative-going pulse on D\C\M\D\ initiates a discharge to endof- discharge voltage (EDV) on the BAT (See Datasheet)", 2 DSEL "This three-state input configures the charge status display mode of the LED1 and LED2 outputs and can be used to disable top-off and pulsed-trickle. See Table 2.", 3 VSEL "This three-state input controls the voltagetermination technique used by the bq2004E/H. When high, PVD is active.When floating, -deltaV is used. When pulled low,both PVD and -deltaV are disabled.", 4 TM1 "TM1 is three-state input that configure the fast charge safety timer, voltage termination hold-off time, "top-off" and trickle charge control. See Table 1.", 5 TM2 "TM2 is three-state input that configure the fast charge safety timer, voltage termination hold-off time, "top-off" and trickle charge control. See Table 1.", 6 TCO (in) "Input to set maximum allowable battery temperature. If the potential between TS and SNS is less than the voltage at the TCO input, then fast charge or top-off charge is terminated.", 7 TS (in) "Input, referenced to SNS, for an external thermister monitoring battery temperature.", 8 BAT (in) "BAT is the battery voltage sense input, referenced to SNS. This is created by a highimpedance resistor-divider network connected between the positive and the negative terminals of the battery.", 9 SNS (in) "SNS controls the switching of MOD based on an external sense resistor in the current path of the battery. SNS is the reference potential for both the TS and BAT pins. If SNS is connected to VSS, then MOD switches high at the (See Datasheet)", 10 LED1 (hiz) "Push-pull outputs indicating charging status. See Table 2.", 11 LED2 (hiz) "Push-pull outputs indicating charging status. See Table 2.", 12 VSS (power) "Ground", 13 VCC (power) "5.0V, +/-10% power input.", 14 MOD (hiz) "MOD is a push-pull output that is used to control the charging current to the battery.MOD switches high to enable charging current to flow and low to inhibit charging current flow.", 15 DIS (hiz) "Push-pull output used to control an external transistor to discharge the battery before charging.", 16 ~{INH} (in) "When low, the bq2004  suspends all charge actions, drives all outputs to high impedance,and assumes a low-power operational state. When transitioning from low to high, a new charge cycle is started."